# Altium schematic symbol library lds3985.SchLib: 1 symbol
Pins are listed as number, name and electrical type; pins without a type are passive.

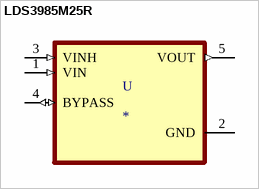
[diagram p0: symbol LDS3985M25R]

## LDS3985M25R
designator U
Linear Voltage Regulator IC 1 Output 300mA SOT-23-5; MF: STMicroelectronics; MP: LDS3985M25R; Price: None; Package: SOT-23-5 STMicroelectronics; Availability: Unavailable; SnapEDA_Link: https://www.snapeda.com/parts/LDS3985M25R/STMicroelectronics/view-part/611665/?ref=snap; Value: *
footprint SOT95P280X145-5N
footprint SOIC127P600X175-14N
pins: 1 VIN (in), 2 GND (power), 3 VINH (in), 4 BYPASS (io), 5 VOUT (out)